# Altium schematic symbol library connector.SchLib: 32 symbols
Pins are listed as number, name and electrical type; pins without a type are passive.

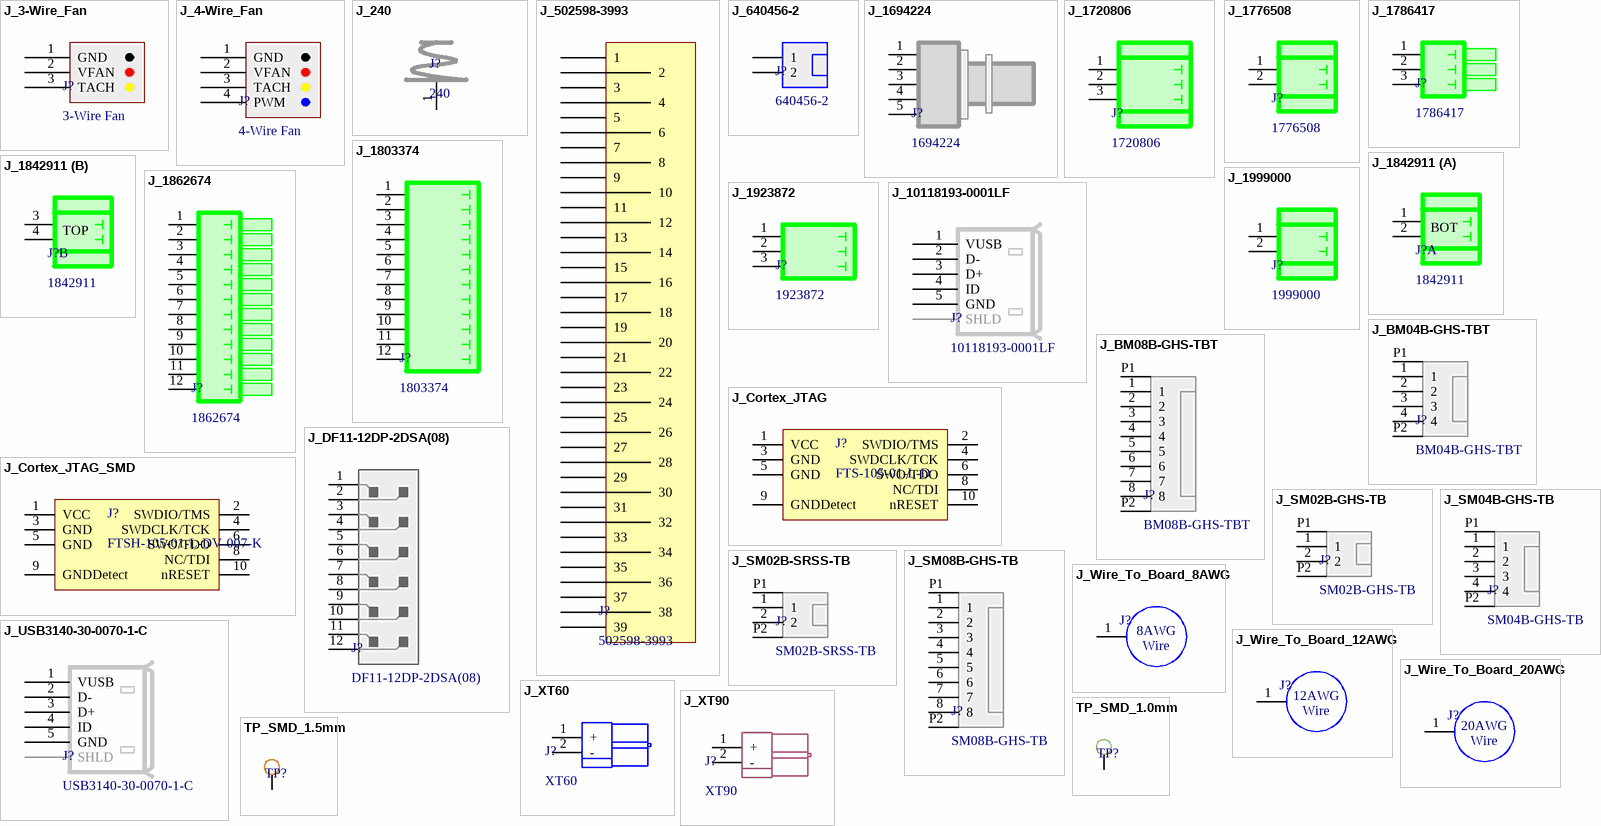
[diagram p0: symbols J_3-Wire_Fan to TP_SMD_1.5mm]

## J_3-Wire_Fan
designator J?, comment 3-Wire Fan
Connector Header Through Hole 3 position 0.100" (2.54mm); Supplier 1: Digi-Key; Supplier Part Number 1: WM4201-ND
footprint J_0022232031 (Molex 0022232031)
pins: 1 GND, 2 VFAN, 3 TACH

## J_4-Wire_Fan
designator J?, comment 4-Wire Fan
Connector Header Through Hole 4 position 0.100" (2.54mm); Manufacturer: Molex; Manufacturer Part Number: 0470531000; Supplier 1: Digi-Key; Supplier Part Number 1: WM4330-ND
footprint J_0470531000 (Footprint not found)
pins: 1 GND, 2 VFAN, 3 TACH, 4 PWM

## J_240
designator J?, comment 240
Battery Contact Spring (Coil) AA 1 Cell PC Pin; Manufacturer: Keystone Electronics; Manufacturer Part Number: 240
footprint J_240 (Battery Contact Spring (Coil) AA 1 Cell PC Pin)
pins: 1

## J_502598-3993
designator J?, comment 502598-3993
39 Position FPC Connector Contacts, Top and Bottom 0.012" (0.30mm) Surface Mount, Right Angle; Supplier 1: Digi-Key; Supplier 2: Mouser; Supplier Part Number 1: WM9776CT-ND; Supplier Part Number 2: 538-502598-3993
footprint J_502598-3993 (39 Position FPC Connector Contacts, Top and Bottom 0.012" (0.30mm) Surface Mount, Right Angle)
pins: 1, 2, 3, 4, 5, 6, 7, 8, 9, 10, 11, 12, 13, 14, 15, 16, 17, 18, 19, 20, 21, 22, 23, 24, 25, 26, 27, 28, 29, 30, 31, 32, 33, 34, 35, 36, 37, 38, 39

## J_640456-2
designator J?, comment 640456-2
Connector Header Through Hole 2 position 0.100" (2.54mm); Manufacturer: TE Connectivity; Current Rating: 5A; Voltage Rating: 250V; Contact Resistance: 6mR; Supplier 1: Digi-Key; Supplier Part Number 1: A1921-ND; Min Operating Temperature: -67°C; Max Operating Temperature: 221°C; Manufacturer Part Number: 640456-2
footprint J_640456-2 (TE Connectivity 640456-2)
pins: 1, 2

## J_1694224
designator J?, comment 1694224
5 Position Circular Connector Plug, Male Pins Solder Gold; Supplier 1: Digi-Key; Supplier Part Number 1: 277-2689-ND
footprint J_1694224 (5 Position Circular Connector Plug, Male Pins Solder Gold)
footprint J_1694224_with_1405986 (5 Position Circular Connector Plug, Male Pins Solder Gold)
pins: 1, 2, 3, 4, 5

## J_1720806
designator J?, comment 1720806
3 Position Terminal Block Header, Male Pins, Shrouded (4 Side) 0.300" (7.62mm) 90°, Right Angle Through Hole; Supplier 1: Digi-Key; Supplier Part Number 1: 277-8619-ND
footprint J_1720806_with_1996139 (3 Position Terminal Block Header, Male Pins, Shrouded (4 Side) 0.300" (7.62mm) 90°, Right Angle Through Hole)
footprint J_1720806 (3 Position Terminal Block Header, Male Pins, Shrouded (4 Side) 0.300" (7.62mm) 90°, Right Angle Through Hole)
pins: 1, 2, 3

## J_1776508
designator J?, comment 1776508
2 Position Terminal Block Header, Male Pins, Shrouded (4 Side) 0.200" (5.08mm) 90°, Right Angle Through Hole; Supplier 1: Digi-Key; Supplier Part Number 1: 277-5741-ND
footprint J_1776508_with_1754791 (2 Position Terminal Block Header, Male Pins, Shrouded (4 Side) 0.200" (5.08mm) 90°, Right Angle Through Hole)
footprint J_1776508 (2 Position Terminal Block Header, Male Pins, Shrouded (4 Side) 0.200" (5.08mm) 90°, Right Angle Through Hole)
pins: 1, 2

## J_1786417
designator J?, comment 1786417
3 Position Terminal Block Header, Female Sockets 0.200" (5.08mm) 90°, Right Angle Through Hole; Supplier 1: Digi-Key; Supplier Part Number 1: 277-5985-ND
footprint J_1786417 (3 Position Terminal Block Header, Female Sockets 0.200" (5.08mm) 90°, Right Angle Through Hole)
pins: 1, 2, 3

## J_1803374
designator J?, comment 1803374
12 Position Terminal Block Header, Male Pins, Shrouded (4 Side) 0.150" (3.81mm) 90°, Right Angle Through Hole; Supplier 1: Digi-Key; Supplier Part Number 1: 277-1216-ND
footprint J_1803374 (12 Position Terminal Block Header, Male Pins, Shrouded (4 Side) 0.150" (3.81mm) 90°, Right Angle Through Hole)
pins: 1, 2, 3, 4, 5, 6, 7, 8, 9, 10, 11, 12

## J_1842911
designator J?, comment 1842911
4 Position Terminal Block Header, Male Pins, Shrouded (4 Side) 0.150" (3.81mm) 90°, Right Angle Through Hole; Supplier 1: Digi-Key; Supplier Part Number 1: 277-14180-ND
footprint J_1842911_with_1748354 (4 Position Terminal Block Header, Male Pins, Shrouded (4 Side) 0.150" (3.81mm) 90°, Right Angle Through Hole)
footprint J_1842911 (4 Position Terminal Block Header, Male Pins, Shrouded (4 Side) 0.150" (3.81mm) 90°, Right Angle Through Hole)
part A pins: 1, 2
part B pins: 3, 4
part A text: BOT
part B text: TOP

## J_1862674
designator J?, comment 1862674
12 Position Terminal Block Header, Female Sockets 0.150" (3.81mm) 90°, Right Angle Through Hole; Supplier 1: Digi-Key; Supplier Part Number 1: 277-6335-ND
footprint J_1862674 (12 Position Terminal Block Header, Female Sockets 0.150" (3.81mm) 90°, Right Angle Through Hole)
pins: 1, 2, 3, 4, 5, 6, 7, 8, 9, 10, 11, 12

## J_1923872
designator J?, comment 1923872
3 Position Terminal Block Header, Male Pins, Shrouded (4 Side) 0.200" (5.08mm) 90°, Right Angle Through Hole; Supplier 1: Digi-Key; Supplier Part Number 1: 277-6944-ND
footprint J_1923872 (3 Position Terminal Block Header, Male Pins, Shrouded (4 Side) 0.200" (5.08mm) 90°, Right Angle Through Hole)
pins: 1, 2, 3

## J_1999000
designator J?, comment 1999000
2 Position Terminal Block Header, Male Pins, Shrouded (4 Side) 0.400" (10.16mm) 90°, Right Angle Through Hole; Supplier 1: Digi-Key; Supplier Part Number 1: 277-6906-ND
footprint J_1999000_with_1711378 (2 Position Terminal Block Header, Male Pins, Shrouded (4 Side) 0.400" (10.16mm) 90°, Right Angle Through Hole)
footprint J_1999000 (2 Position Terminal Block Header, Male Pins, Shrouded (4 Side) 0.400" (10.16mm) 90°, Right Angle Through Hole)
pins: 1, 2

## J_10118193-0001LF
designator J?, comment 10118193-0001LF
USB - micro B USB 2.0 Receptacle Connector 5 Position Surface Mount, Right Angle; Through Hole; Supplier 1: Digi-Key; Supplier 2: Mouser; Supplier Part Number 1: 609-4616-1-ND; Supplier Part Number 2: 649-10118193-0001LF
footprint J_10118193-0001LF (Micro USB Connector)
pins: 1 VUSB (power), 2 D-, 3 D+, 4 ID, 5 GND (power), SHLD

## J_BM04B-GHS-TBT
designator J?, comment BM04B-GHS-TBT
Connector Header Surface Mount 4 position 0.049" (1.25mm); Manufacturer: JST; Manufacturer Part Number: BM04B-GHS-TBT(LF)(SN); Current Rating: 1A; Gender: Male; Voltage Rating: 50V; Wire/Cable Gauge: 26AWG; Supplier 1: Digi-Key; Supplier Part Number 1: 455-1580-1-ND; Contact Material: Bronze; Contact Plating: Tin; Housing Color: Natural; Max Operating Temperature: 85°C; Min Operating Temperature: -25°C; Housing Material: Nylon; Voltage Rating (AC): 50V; Termination: Crimp; Pitch: 1.25mm; Orientation: Straight
footprint J_BM04B-GHS-TBT (Connector Header Surface Mount 4 position 0.049" (1.25mm))
pins: 1, 2, 3, 4, P1, P2

## J_BM08B-GHS-TBT
designator J?, comment BM08B-GHS-TBT
Connector Header Surface Mount 8 position 0.049" (1.25mm); Manufacturer: JST; Manufacturer Part Number: BM08B-GHS-TBT(LF)(SN); Current Rating: 1A; Voltage Rating: 50V; Wire/Cable Gauge: 26AWG; Supplier 1: Digi-Key; Supplier Part Number 1: 455-1584-1-ND; Contact Material: Bronze; Contact Plating: Tin; Housing Material: Nylon; Max Operating Temperature: 85°C; Min Operating Temperature: -25°C; Pitch: 1.25mm; Voltage Rating (AC): 50V
footprint J_BM08B-GHS-TBT (Connector Header Surface Mount 8 position 0.049" (1.25mm))
pins: 1, 2, 3, 4, 5, 6, 7, 8, P1, P2

## J_Cortex_JTAG
designator J?, comment FTS-105-01-L-D
CORTEX JTAG DEBUG CONNECTOR; Manufacturer: Samtec Inc; Supplier 1: Digi-Key; Supplier Part Number 1: SAM1156-05-ND; Manufacturer PN: FTS-105-01-L-D
footprint J_Cortex_JTAG (JTAG Header for ARM Cortex MCUs)
pins: 1 VCC, 2 SWDIO/TMS, 3 GND, 4 SWDCLK/TCK, 5 GND, 6 SWO/TDO, 8 NC/TDI, 9 GNDDetect, 10 nRESET

## J_Cortex_JTAG_SMD
designator J?, comment FTSH-105-01-L-DV-007-K
CORTEX JTAG DEBUG CONNECTOR; Manufacturer: Samtec Inc; Manufacturer PN: FTSH-105-01-L-DV-007-K; Supplier 1: Digi-Key; Supplier Part Number 1: SAM9438-ND
footprint J_Cortex_JTAG_SMD (SMD JTAG Header for ARM Cortex MCUs)
pins: 1 VCC, 2 SWDIO/TMS, 3 GND, 4 SWDCLK/TCK, 5 GND, 6 SWO/TDO, 8 NC/TDI, 9 GNDDetect, 10 nRESET

## J_DF11-12DP-2DSA(08)
designator J?, comment DF11-12DP-2DSA(08)
Connector Header Through Hole 12 position 0.079" (2.00mm); Supplier 1: Digi-Key; Supplier Part Number 1: H125943-ND
footprint J_DF11-12DP-2DSA(08) (Connector Header Through Hole 12 position 0.079" (2.00mm))
pins: 1, 2, 3, 4, 5, 6, 7, 8, 9, 10, 11, 12

## J_SM02B-GHS-TB
designator J?, comment SM02B-GHS-TB
Connector Header Surface Mount, Right Angle 2 position 0.049" (1.25mm); Manufacturer Part Number: SM02B-GHS-TB(LF)(SN); Manufacturer: JST; Current Rating: 1A; Number of Contacts: 2; Pitch: 0.049inch; Voltage Rating: 50V; Color: Natural; Contact Plating: Tin; Fastening Type: Ramp; Housing Material: Nylon; Number of Positions: 2; Number of Rows: 1; Orientation: Right Angle; Contact Material: Bronze; Supplier 1: Digi-Key; Supplier Part Number 1: 455-1564-1-ND
footprint J_SM02B-GHS-TB (Connector Header Surface Mount, Right Angle 2 position 0.049" (1.25mm))
pins: 1, 2, P1, P2

## J_SM02B-SRSS-TB
designator J?, comment SM02B-SRSS-TB
Connector Header Surface Mount, Right Angle 2 position 0.039" (1.00mm); Manufacturer Part Number: SM02B-SRSS-TB(LF)(SN); Manufacturer: JST; Current Rating: 0.7A; Number of Contacts: 2; Voltage Rating: 50V; Color: Natural; Contact Plating: Tin; Fastening Type: Ramp; Housing Material: Nylon; Number of Positions: 2; Number of Rows: 1; Orientation: Right Angle; Pitch: 0.039" (1.00mm); Contact Material: Copper Alloy; Supplier 1: Arrow; Supplier 2: Digi-Key; Supplier Part Number 1: SM02B-SRSS-TB (LF)(SN); Supplier Part Number 2: 455-1802-1-ND
footprint J_SM02B-SRSS-TB (Connector Header Surface Mount, Right Angle 2 position 0.039" (1.00mm))
pins: 1, 2, P1, P2

## J_SM04B-GHS-TB
designator J?, comment SM04B-GHS-TB
Connector Header Surface Mount, Right Angle 4 position 0.049" (1.25mm); Manufacturer Part Number: SM04B-GHS-TB(LF)(SN); Manufacturer: JST; Current Rating: 1A; Pitch: 0.049inch; Voltage Rating: 50V; Supplier 1: Digi-Key; Supplier Part Number 1: 455-1570-1-ND; Color: Natural; Contact Plating: Tin; Orientation: Right Angle; Housing Material: Nylon; Fastening Type: Ramp
footprint J_SM04B-GHS-TB (Connector Header Surface Mount, Right Angle 4 position 0.049" (1.25mm))
pins: 1, 2, 3, 4, P1, P2

## J_SM08B-GHS-TB
designator J?, comment SM08B-GHS-TB
Connector Header Surface Mount, Right Angle 8 position 0.049" (1.25mm); Manufacturer Part Number: SM08B-GHS-TB(LF)(SN); Manufacturer: JST; Current Rating: 1A; Pitch: 0.049inch; Voltage Rating: 50V; Supplier 1: Digi-Key; Supplier Part Number 1: 455-1570-1-ND; Color: Natural; Contact Plating: Tin; Orientation: Right Angle; Housing Material: Nylon; Fastening Type: Ramp
footprint J_SM08B-GHS-TB (Connector Header Surface Mount, Right Angle 8 position 0.049" (1.25mm))
pins: 1, 2, 3, 4, 5, 6, 7, 8, P1, P2

## J_USB3140-30-0070-1-C
designator J?, comment USB3140-30-0070-1-C
USB - micro B USB 2.0 Receptacle Connector 5 Position Surface Mount, Through Hole; Supplier 1: Digi-Key; Supplier Part Number 1: 2073-USB3140-30-0070-1-CCT-ND
footprint J_USB3140-30-0070-1-C (USB - micro B USB 2.0 Receptacle Connector 5 Position Surface Mount, Through Hole)
pins: 1 VUSB (power), 2 D-, 3 D+, 4 ID, 5 GND (power), SHLD

## J_Wire_To_Board_8AWG
designator J?, comment 8AWG Wire To Board  (value not drawn)
8AWG Stranded Wire Thru-Hole Pad
footprint Wire_To_Board_8AWG_Red (12AWG Wire To Board (Red))
footprint Wire_To_Board_8AWG_Black (12AWG Wire To Board (Black))
pins: 1
text: 8AWG; Wire

## J_Wire_To_Board_12AWG
designator J?, comment 12AWG Wire To Board  (value not drawn)
12AWG Stranded Wire Thru-Hole Pad
footprint Wire_To_Board_12AWG_Red (12AWG Wire To Board (Red))
footprint Wire_To_Board_12AWG_Black (12AWG Wire To Board (Black))
pins: 1
text: 12AWG; Wire

## J_Wire_To_Board_20AWG
designator J?, comment 20AWG Wire To Board  (value not drawn)
20AWG Stranded Wire Thru-Hole Pad
footprint Wire_To_Board_20AWG_Red (20AWG Wire To Board (Red))
footprint Wire_To_Board_20AWG_Black (20AWG Wire To Board (Black))
pins: 1
text: 20AWG; Wire

## J_XT60
designator J?, comment XT60
60 Amp XT60 Connector
footprint J_XT60_SMD_Female
footprint J_XT60_SMD_Male
footprint J_XT60_SMD_RA_Female
footprint J_XT60_SMD_RA_Male
footprint J_XT60_Thru_Female
footprint J_XT60_Thru_Male
pins: 1 +, 2 -

## J_XT90
designator J?, comment XT90
90 Amp XT90 Connector
footprint J_XT90_SMD
footprint J_XT90_SMD_RA
footprint J_XT90_Thru
pins: 1 +, 2 -

## TP_SMD_1.0mm
designator TP?, comment 1mm test point  (value not drawn)  (no BOM)
footprint TP_SMD_1.0mm (1mm diameter SMD test point)
pins: 1

## TP_SMD_1.5mm
designator TP?, comment 1.5mm test point  (value not drawn)  (no BOM)
footprint TP_SMD_1.5mm (1.5mm diameter SMD test point)
pins: 1